# Altium footprint library C4289.PcbLib: 1 footprints
Each footprint in its own frame and in the unit in brackets; x right, y up, seen from the top. Pads: shape width x height; smd on the part's side, far side on the other; paste and mask are expansions set on the pad; w line width, h text height; cw(c..) or ccw(c..) is an arc to the next point about the centre after c.
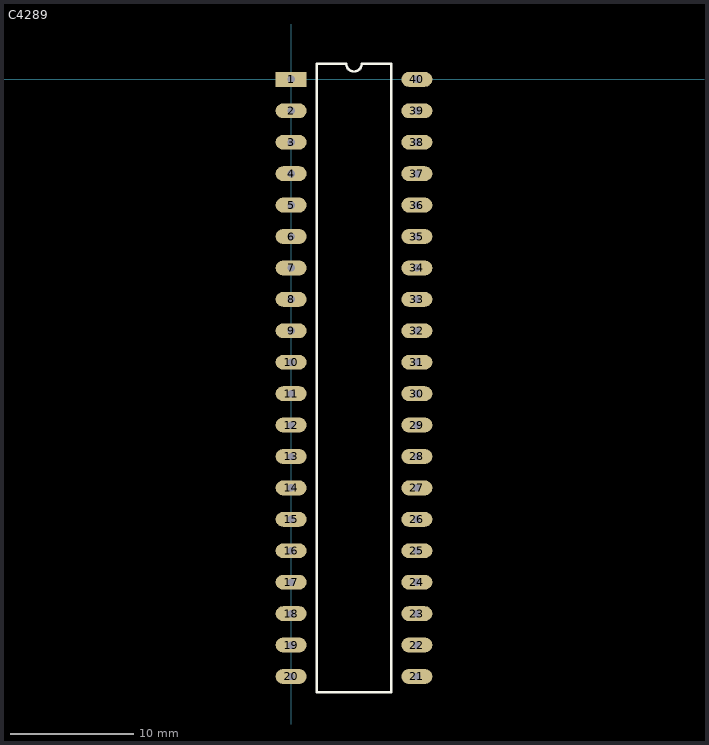
[diagram p0: the footprint, top view; thin cyan lines are the x and y axes]

## C4289 [mm]
pads (40):
  rect 2.5x1.2 hole 0.6: 1(0,0)
  oval 2.5x1.2 hole 0.6: 2(0,-2.54) 3(0,-5.08) 4(0,-7.62) 5(0,-10.16) 6(0,-12.7) 7(0,-15.24) 8(0,-17.78) 9(0,-20.32) 10(0,-22.86) 11(0,-25.4) 12(0,-27.94) 13(0,-30.48) 14(0,-33.02) 15(0,-35.56) 16(0,-38.1) 17(0,-40.64) 18(0,-43.18) 19(0,-45.72) 20(0,-48.26) 21(10.16,-48.26) 22(10.16,-45.72) 23(10.16,-43.18) 24(10.16,-40.64) 25(10.16,-38.1) 26(10.16,-35.56) 27(10.16,-33.02) 28(10.16,-30.48) 29(10.16,-27.94) 30(10.16,-25.4) 31(10.16,-22.86) 32(10.16,-20.32) 33(10.16,-17.78) 34(10.16,-15.24) 35(10.16,-12.7) 36(10.16,-10.16) 37(10.16,-7.62) 38(10.16,-5.08) 39(10.16,-2.54) 40(10.16,0)
Top Overlay:
  lines w0.2: 2.085,-49.53 8.075,-49.53 8.075,1.27 5.715,1.27 cw(c5.08,1.27) 4.445,1.27 2.085,1.27 2.085,-49.53